# Altium footprint library LEDs.PcbLib: 17 footprints (part 1 of 2)
Each footprint in its own frame and in the unit in brackets; x right, y up, seen from the top. Pads: shape width x height; smd on the part's side, far side on the other; paste and mask are expansions set on the pad; w line width, h text height; cw(c..) or ccw(c..) is an arc to the next point about the centre after c.
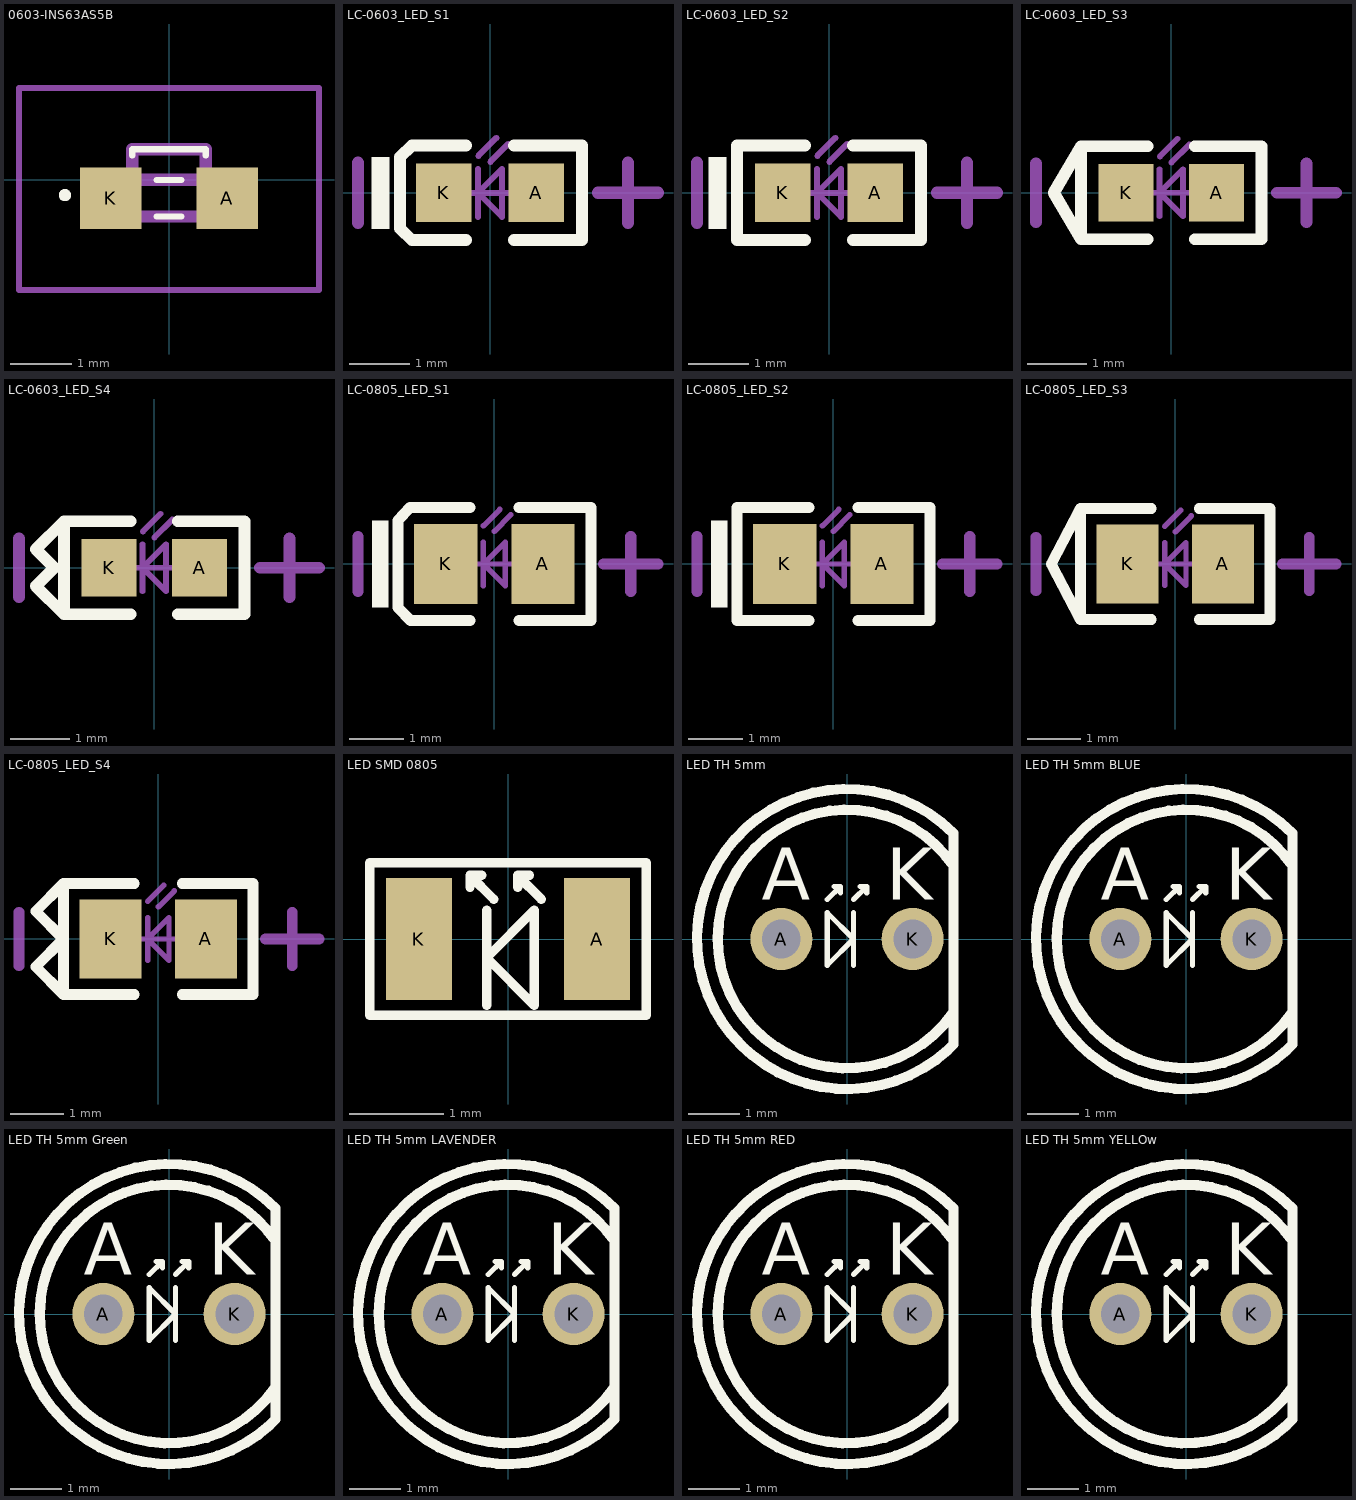
[diagram p0: the footprints below, top view; thin cyan lines are the x and y axes]

## 0603-INS63AS5B [mm]
pads (2):
  rect 1x1 smd: A(0.95,-0.3) K(-0.95,-0.3)
Top Overlay:
  lines w0.1: -0.6,0.4 -0.6,0.5 0.6,0.5 0.6,0.4 ; -0.2,-0.6 0.2,-0.6 ; -0.2,0 0.2,0 ; -1.7,-0.3 cw(c-1.7,-0.25) -1.7,-0.2 cw(c-1.7,-0.25) -1.7,-0.3
Mechanical 13:
  lines w0.2: -0.6,0 -0.6,0.5 0.6,0.5 0.6,0 ; -0.95,-0.6 0.95,-0.6 0.95,0 -0.95,0 -0.95,-0.6
Mechanical 15:
  lines w0.1: -2.45,-1.8 2.45,-1.8 2.45,1.5 -2.45,1.5 -2.45,-1.8

## LC-0603_LED_S1 [mm]
pads (2):
  rect 0.93x0.98 smd: A(0.77,0) K(-0.77,0)
Top Overlay:
  rectangle: -1.975,-0.6 -1.675,0.6
  lines w0.2: -0.4,-0.79 -1.3,-0.79 -1.5,-0.597 -1.5,0.597 -1.3,0.79 -0.4,0.79 ; 0.4,-0.79 1.535,-0.79 1.535,0.79 0.4,0.79
Mechanical 13:
  lines w0.1: -0.4,0 0.4,0 ; -0.2,-0.4 -0.2,0.4 ; -0.195,0.617 0.105,0.917 ; 0.005,0.517 0.305,0.817 ; -0.2,0 0.2,0.4 0.2,-0.4 -0.2,0
Mechanical 15:
  lines w0.203: -2.2,-0.5 -2.2,0.5 ; 1.8,0 2.8,0 ; 2.3,-0.5 2.3,0.5
3D body "User Library-LED_0603_R.STEP": height 0.6, standoff 0, extent -0.8,-0.4 0.8,0.4

## LC-0603_LED_S2 [mm]
pads (2):
  rect 0.93x0.98 smd: A(0.77,0) K(-0.77,0)
Top Overlay:
  rectangle: -2.01,-0.6 -1.71,0.6
  lines w0.2: -0.4,-0.79 -1.535,-0.79 -1.535,0.79 -0.4,0.79 ; 0.4,-0.79 1.535,-0.79 1.535,0.79 0.4,0.79
Mechanical 13:
  lines w0.1: -0.4,0 0.4,0 ; -0.2,-0.4 -0.2,0.4 ; -0.195,0.617 0.105,0.917 ; 0.005,0.517 0.305,0.817 ; -0.2,0 0.2,-0.4 0.2,0.4 -0.2,0
Mechanical 15:
  lines w0.203: -2.2,-0.5 -2.2,0.5 ; 1.8,0 2.8,0 ; 2.3,-0.5 2.3,0.5
3D body "User Library-LED_0603_R.STEP": height 0.6, standoff 0, extent -0.8,-0.4 0.8,0.4

## LC-0603_LED_S3 [mm]
pads (2):
  rect 0.93x0.98 smd: A(0.77,0) K(-0.77,0)
Top Overlay:
  lines w0.2: -0.4,-0.79 -1.535,-0.79 ; -0.4,0.79 -1.535,0.79 ; 0.4,-0.79 1.535,-0.79 1.535,0.79 0.4,0.79 ; -1.535,-0.79 -1.535,0.79 ; -1.535,-0.79 -2,0 -1.535,0.79
Mechanical 13:
  lines w0.1: -0.4,0 0.4,0 ; -0.2,-0.4 -0.2,0.4 ; -0.195,0.617 0.105,0.917 ; 0.005,0.517 0.305,0.817 ; -0.2,0 0.2,-0.4 0.2,0.4 -0.2,0
Mechanical 15:
  lines w0.203: -2.3,-0.5 -2.3,0.5 ; 1.8,0 2.8,0 ; 2.3,-0.5 2.3,0.5
3D body "User Library-LED_0603_R.STEP": height 0.6, standoff 0, extent -0.8,-0.4 0.8,0.4

## LC-0603_LED_S4 [mm]
pads (2):
  rect 0.93x0.98 smd: A(0.77,0) K(-0.77,0)
Top Overlay:
  lines w0.2: -0.4,-0.79 -1.535,-0.79 ; -0.4,0.79 -1.535,0.79 ; 0.4,-0.79 1.535,-0.79 1.535,0.79 0.4,0.79 ; -1.535,-0.79 -2.012,-0.313 -1.7,0 -2.012,0.313 -1.535,0.79 ; -1.535,-0.79 -1.535,0.79
Mechanical 13:
  lines w0.1: -0.4,0 0.4,0 ; -0.2,-0.4 -0.2,0.4 ; -0.195,0.617 0.105,0.917 ; 0.005,0.517 0.305,0.817 ; -0.2,0 0.2,-0.4 0.2,0.4 -0.2,0
Mechanical 15:
  lines w0.203: -2.3,-0.5 -2.3,0.5 ; 1.8,0 2.8,0 ; 2.3,-0.5 2.3,0.5
3D body "User Library-LED_0603_R.STEP": height 0.6, standoff 0, extent -0.8,-0.4 0.8,0.4

## LC-0805_LED_S1 [mm]
pads (2):
  rect 1.16x1.47 smd: A(0.89,0) K(-0.89,0)
Top Overlay:
  rectangle: -2.245,-0.8 -1.945,0.8
  lines w0.2: -0.45,-1.035 -1.535,-1.035 -1.77,-0.8 -1.77,0.8 -1.55,1.035 -0.45,1.035 ; 0.45,-1.035 1.77,-1.035 1.77,1.035 0.45,1.035
Mechanical 13:
  lines w0.1: -0.4,0 0.4,0 ; -0.2,-0.4 -0.2,0.4 ; -0.2,0.7 0.1,1 ; 0,0.6 0.3,0.9 ; -0.2,0 0.2,-0.4 0.2,0.4 -0.2,0
Mechanical 15:
  lines w0.203: -2.5,-0.5 -2.5,0.5 ; 2,0 3,0 ; 2.5,-0.5 2.5,0.5
3D body "User Library-led_0805.step": height 1.1, standoff 0, extent -1.01,-0.625 1.01,0.625

## LC-0805_LED_S2 [mm]
pads (2):
  rect 1.16x1.47 smd: A(0.89,0) K(-0.89,0)
Top Overlay:
  rectangle: -2.245,-0.8 -1.945,0.8
  lines w0.2: -0.45,-1.035 -1.77,-1.035 -1.77,1.035 -0.45,1.035 ; 0.45,-1.035 1.77,-1.035 1.77,1.035 0.45,1.035
Mechanical 13:
  lines w0.1: -0.4,0 0.4,0 ; -0.2,-0.4 -0.2,0.4 ; -0.2,0.7 0.1,1 ; 0,0.6 0.3,0.9 ; -0.2,0 0.2,-0.4 0.2,0.4 -0.2,0
Mechanical 15:
  lines w0.203: -2.5,-0.5 -2.5,0.5 ; 2,0 3,0 ; 2.5,-0.5 2.5,0.5
3D body "User Library-led_0805.step": height 1.1, standoff 0, extent -1.01,-0.625 1.01,0.625

## LC-0805_LED_S3 [mm]
pads (2):
  rect 1.16x1.47 smd: A(0.89,0) K(-0.89,0)
Top Overlay:
  lines w0.2: -0.45,-1.035 -1.77,-1.035 ; -0.45,1.035 -1.77,1.035 ; 0.45,-1.035 1.77,-1.035 1.77,1.035 0.45,1.035 ; -1.77,-1.035 -1.77,1.035 ; -1.77,-1.035 -2.315,0 -1.77,1.035
Mechanical 13:
  lines w0.1: -0.4,0 0.4,0 ; -0.2,-0.4 -0.2,0.4 ; -0.2,0.7 0.1,1 ; 0,0.6 0.3,0.9 ; -0.2,0 0.2,0.4 0.2,-0.4 -0.2,0
Mechanical 15:
  lines w0.203: -2.6,-0.5 -2.6,0.5 ; 2,0 3,0 ; 2.5,-0.5 2.5,0.5
3D body "User Library-led_0805.step": height 1.1, standoff 0, extent -1.01,-0.625 1.01,0.625

## LC-0805_LED_S4 [mm]
pads (2):
  rect 1.16x1.47 smd: A(0.89,0) K(-0.89,0)
Top Overlay:
  lines w0.2: -0.45,-1.035 -1.77,-1.035 ; -0.45,1.035 -1.77,1.035 ; 0.45,-1.035 1.77,-1.035 1.77,1.035 0.45,1.035 ; -1.77,-1.035 -2.288,-0.517 -1.77,0 -2.287,0.517 -1.77,1.035 ; -1.77,-1.035 -1.77,1.035
Mechanical 13:
  lines w0.1: -0.4,0 0.4,0 ; -0.2,-0.4 -0.2,0.4 ; -0.2,0.7 0.1,1 ; 0,0.6 0.3,0.9 ; -0.2,0 0.2,-0.4 0.2,0.4 -0.2,0
Mechanical 15:
  lines w0.203: -2.6,-0.5 -2.6,0.5 ; 2,0 3,0 ; 2.5,-0.5 2.5,0.5
3D body "User Library-led_0805.step": height 1.1, standoff 0, extent -1.01,-0.625 1.01,0.625

## LED SMD 0805 [mm]
pads (2):
  rect 0.7x1.3 smd: A(0.95,0) K(-0.95,0)
Top Overlay:
  lines w0.1: -0.406,0.551 -0.406,0.678 ; -0.279,0.678 -0.406,0.678 ; -0.227,-0.708 -0.227,0.308 ; -0.152,0.424 -0.406,0.678 ; 0.102,0.551 0.102,0.678 ; 0.229,0.678 0.102,0.678 ; 0.356,0.424 0.102,0.678 ; -1.473,-0.813 -1.473,0.813 1.473,0.813 1.473,-0.813 -1.473,-0.813 ; -0.227,-0.2 0.281,0.308 0.281,-0.708 -0.227,-0.2

## LED TH 5mm [mm] "Through hole 5mm LED"
height 10
pads (2):
  round 1.2 hole 0.75: A(-1.27,0) K(1.27,0)
Top Overlay:
  lines w0.1: -0.381,0.762 -0.127,1.016 ; -0.254,1.016 -0.127,1.016 ; -0.127,0.889 -0.127,1.016 ; 0.127,-0.508 0.127,0.508 ; 0.127,0.762 0.381,1.016 ; 0.254,1.016 0.381,1.016 ; 0.381,0.889 0.381,1.016 ; -0.381,-0.508 -0.381,0.508 0.127,0 -0.381,-0.508
  lines w0.2: 2.052,2.052 ccw(c0,0) 1.952,-2.147 2.06,-2.039 2.06,-1.424 ; 2.06,1.416 ccw(c0,0) 2.042,-1.442 2.06,-1.424 ; 2.06,2.052 2.06,-1.424
  text "K" at 0.762,0.762 h1
  text "A" at -1.651,0.762 h1

## LED TH 5mm BLUE [mm] "Through hole 5mm LED"
height 10
pads (2):
  round 1.2 hole 0.75: A(-1.27,0) K(1.27,0)
Top Overlay:
  lines w0.1: -0.381,0.762 -0.127,1.016 ; -0.254,1.016 -0.127,1.016 ; -0.127,0.889 -0.127,1.016 ; 0.127,-0.508 0.127,0.508 ; 0.127,0.762 0.381,1.016 ; 0.254,1.016 0.381,1.016 ; 0.381,0.889 0.381,1.016 ; -0.381,-0.508 0.127,0 -0.381,0.508 -0.381,-0.508
  lines w0.2: 2.052,2.052 ccw(c0,0) 1.952,-2.147 2.06,-2.039 2.06,-1.424 ; 2.06,1.416 ccw(c0,0) 2.042,-1.442 2.06,-1.424 ; 2.06,2.052 2.06,-1.424
  text "A" at -1.651,0.762 h1
  text "K" at 0.762,0.762 h1
3D body "User Library-LED5MM.STEP": height 8.7, standoff -6.9, extent -2.95,-2.95 2.95,2.95

## LED TH 5mm Green [mm] "Through hole 5mm LED"
height 10
pads (2):
  round 1.2 hole 0.75: A(-1.27,0) K(1.27,0)
Top Overlay:
  lines w0.1: -0.381,0.762 -0.127,1.016 ; -0.254,1.016 -0.127,1.016 ; -0.127,0.889 -0.127,1.016 ; 0.127,-0.508 0.127,0.508 ; 0.127,0.762 0.381,1.016 ; 0.254,1.016 0.381,1.016 ; 0.381,0.889 0.381,1.016 ; -0.381,-0.508 -0.381,0.508 0.127,0 -0.381,-0.508
  lines w0.2: 2.052,2.052 ccw(c0,0) 1.952,-2.147 2.06,-2.039 2.06,-1.424 ; 2.06,1.416 ccw(c0,0) 2.042,-1.442 2.06,-1.424 ; 2.06,2.052 2.06,-1.424
  text "K" at 0.762,0.762 h1
  text "A" at -1.651,0.762 h1
3D body "User Library-LED-D5G.STEP": height 9.04, standoff -6.4, extent -3,-3 2.5,3

## LED TH 5mm LAVENDER [mm] "Through hole 5mm LED"
height 10
pads (2):
  round 1.2 hole 0.75: A(-1.27,0) K(1.27,0)
Top Overlay:
  lines w0.1: -0.381,0.762 -0.127,1.016 ; -0.254,1.016 -0.127,1.016 ; -0.127,0.889 -0.127,1.016 ; 0.127,-0.508 0.127,0.508 ; 0.127,0.762 0.381,1.016 ; 0.254,1.016 0.381,1.016 ; 0.381,0.889 0.381,1.016 ; -0.381,-0.508 -0.381,0.508 0.127,0 -0.381,-0.508
  lines w0.2: 2.052,2.052 ccw(c0,0) 1.952,-2.147 2.06,-2.039 2.06,-1.424 ; 2.06,1.416 ccw(c0,0) 2.042,-1.442 2.06,-1.424 ; 2.06,2.052 2.06,-1.424
  text "K" at 0.762,0.762 h1
  text "A" at -1.651,0.762 h1
3D body "User Library-ledlavanderLED.STEP": height 8.8, standoff -26.15, extent -2.9,-2.9 2.549,2.9

## LED TH 5mm RED [mm] "Through hole 5mm LED"
height 10
pads (2):
  round 1.2 hole 0.75: A(-1.27,0) K(1.27,0)
Top Overlay:
  lines w0.1: -0.381,0.762 -0.127,1.016 ; -0.254,1.016 -0.127,1.016 ; -0.127,0.889 -0.127,1.016 ; 0.127,-0.508 0.127,0.508 ; 0.127,0.762 0.381,1.016 ; 0.254,1.016 0.381,1.016 ; 0.381,0.889 0.381,1.016 ; -0.381,-0.508 -0.381,0.508 0.127,0 -0.381,-0.508
  lines w0.2: 2.052,2.052 ccw(c0,0) 1.952,-2.147 2.06,-2.039 2.06,-1.424 ; 2.06,1.416 ccw(c0,0) 2.042,-1.442 2.06,-1.424 ; 2.06,2.052 2.06,-1.424
  text "K" at 0.762,0.762 h1
  text "A" at -1.651,0.762 h1
3D body "User Library-LED-D5R.STEP": height 9.04, standoff -6.4, extent -3,-3 2.5,3

## LED TH 5mm YELLOw [mm] "Through hole 5mm LED"
height 10
pads (2):
  round 1.2 hole 0.75: A(-1.27,0) K(1.27,0)
Top Overlay:
  lines w0.1: -0.381,0.762 -0.127,1.016 ; -0.254,1.016 -0.127,1.016 ; -0.127,0.889 -0.127,1.016 ; 0.127,-0.508 0.127,0.508 ; 0.127,0.762 0.381,1.016 ; 0.254,1.016 0.381,1.016 ; 0.381,0.889 0.381,1.016 ; -0.381,-0.508 0.127,0 -0.381,0.508 -0.381,-0.508
  lines w0.2: 2.052,2.052 ccw(c0,0) 1.952,-2.147 2.06,-2.039 2.06,-1.424 ; 2.06,1.416 ccw(c0,0) 2.042,-1.442 2.06,-1.424 ; 2.06,2.052 2.06,-1.424
  text "A" at -1.651,0.762 h1
  text "K" at 0.762,0.762 h1
3D body "User Library-LED-D5Y.STEP": height 9.04, standoff -6.4, extent -3,-3 2.5,3